# Altium footprint library LD39100PUR.PcbLib: 1 footprints
Each footprint in its own frame and in the unit in brackets; x right, y up, seen from the top. Pads: shape width x height; smd on the part's side, far side on the other; paste and mask are expansions set on the pad; w line width, h text height; cw(c..) or ccw(c..) is an arc to the next point about the centre after c.
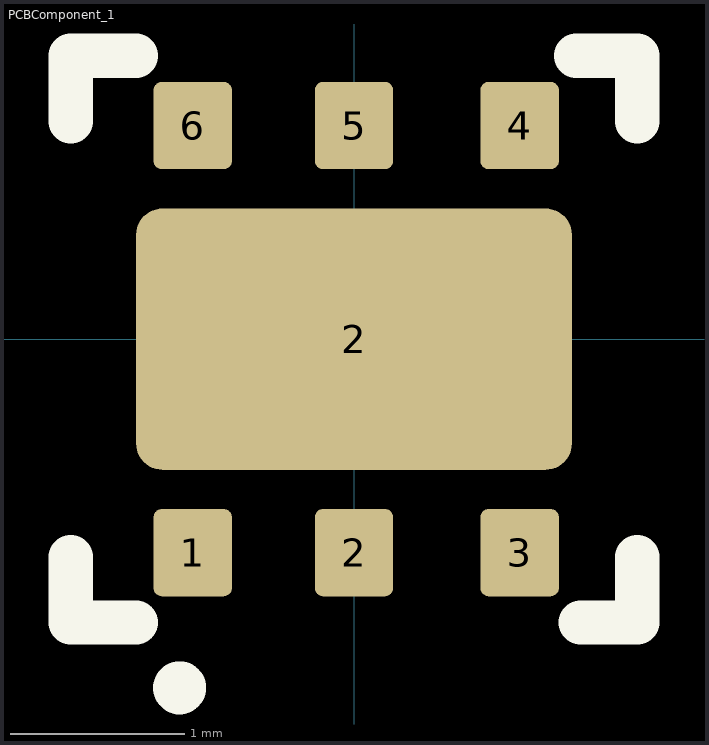
[diagram p0: the footprint, top view; thin cyan lines are the x and y axes]

## PCBComponent_1 [mm]
pads (7):
  rrect20% 0.45x0.5 smd: 1(-0.925,-1.225) 2(0,-1.225) 3(0.95,-1.225) 4(0.95,1.225) 5(0,1.225) 6(-0.925,1.225)
  rrect20% 2.5x1.5 smd: 2(0,0)
Top Overlay:
  circle w0.254: c-1,-2 r0.025
  lines w0.254: -1.625,-1.25 -1.625,-1.625 -1.25,-1.625 ; -1.625,1.25 -1.625,1.625 -1.25,1.625 ; 1.275,1.625 1.625,1.625 1.625,1.25 ; 1.3,-1.625 1.625,-1.625 1.625,-1.25
3D body: height 1, standoff 0, extent -1.5,-1.5 1.5,1.5